# Altium schematic symbol library 386.SchLib: 1 symbol
Pins are listed as number, name and electrical type; pins without a type are passive.

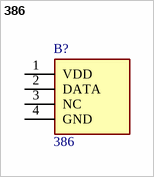
[diagram p0: symbol 386]

## 386
designator B?
Adafruit Accessories DHT11 Basic Temp Humidity Sensor; Geometry.Height: 15.5mm; Manufacturer_Name: Adafruit; Manufacturer_Part_Number: 386; Mouser Part Number: 485-386; Mouser Price/Stock: https://www.mouser.co.uk/ProductDetail/Adafruit/386?qs=GURawfaeGuDbeGFpZ2393w%3D%3D; Arrow Part Number: 386; Arrow Price/Stock: https://www.arrow.com/en/products/386/adafruit-industries?region=nac; Datasheet Link: https://datasheet.datasheetarchive.com/originals/distributors/DKDS-1/1982.pdf
footprint 386
pins: 1 VDD, 2 DATA, 3 NC, 4 GND